# EAGLE library part A4990_DUAL_MOTOR_DRIVER_CARRIER (library byu_pressure_control)
A4990 Dual Motor Driver Carrier (Pololu) Link <https://www.pololu.com/product/2137> Important Note: The schematic for this part indicates that there is a GND and MTR_GND (Motor ground) that are separate. This is not actually the case on the real board where all of the ground pins are connected to each other. They were separated out here to enable each GND and MTR_GND to be connected to different ground pours on the PCB to minimize noise on the analog sensors which will use the GND plane. Once these driver boards are plugged into the PCB, they connect the ground pours to each other to ensure one common ground in the pcb.
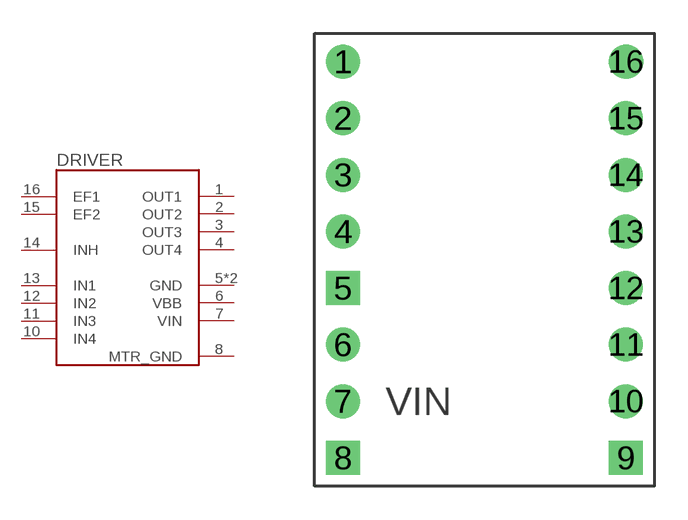
[diagram p3: symbol with the pads of A4990_DUAL_MOTOR_DRIVER_CARRIER; footprint A4990_DUAL_MOTOR_DRIVER_CARRIER]

Designator prefix DRIVER

## A4990_DUAL_MOTOR_DRIVER_CARRIER  [A4990_DUAL_MOTOR_DRIVER_CARRIER]
1  OUT1  out
2  OUT2  out
3  OUT3  out
4  OUT4  out
5  GND
6  VBB
7  VIN  in
8  MTR_GND
9  GND
10  IN4  in
11  IN3  in
12  IN2  in
13  IN1  in
14  INH  in
15  EF2  out
16  EF1  out

## Footprint A4990_DUAL_MOTOR_DRIVER_CARRIER (pad centres in mm)
drill 1.016: 1 1.27,19.05; 2 1.27,16.51; 3 1.27,13.97; 4 1.27,11.43; 6 1.27,6.35; 7 1.27,3.81; 10 13.97,3.81; 11 13.97,6.35; 12 13.97,8.89; 13 13.97,11.43; 14 13.97,13.97; 15 13.97,16.51
drill 1.016 square: 5 1.27,8.89; 8 1.27,1.27; 9 13.97,1.27
drill 1.026: 16 13.97,19.05